# Altium schematic symbol library Vertap_SchLib.SchLib: 24 symbols
Pins are listed as number, name and electrical type; pins without a type are passive.

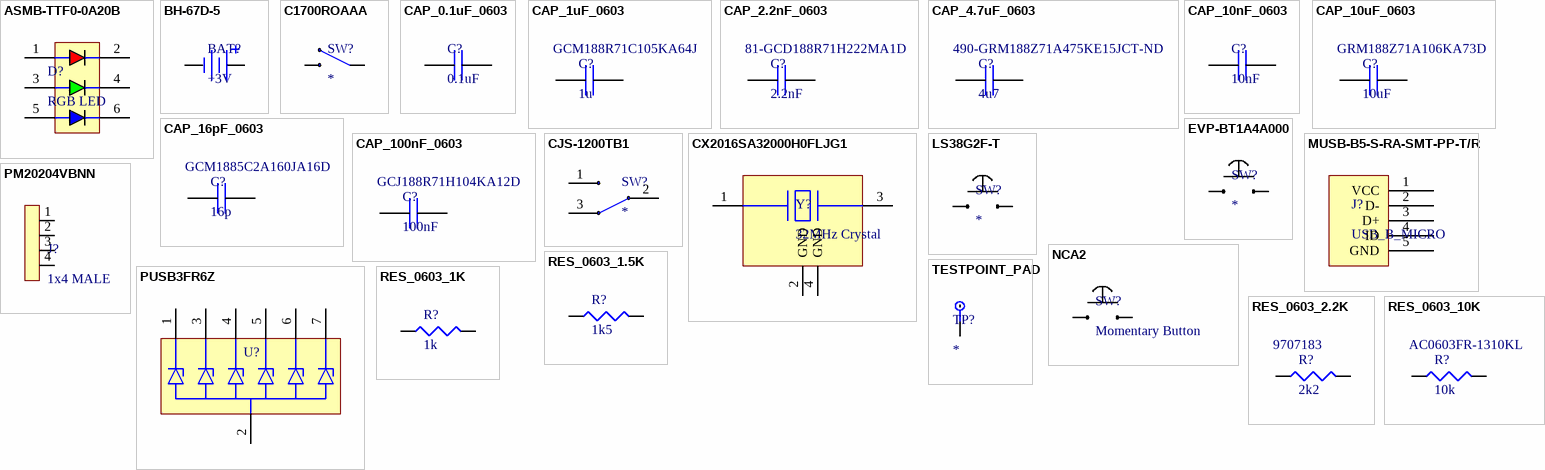
[diagram p0: symbols ASMB-TTF0-0A20B to TESTPOINT_PAD]

## ASMB-TTF0-0A20B
designator D?, comment RGB LED
Red, Green, Blue (RGB) 621nm Red, 522nm Green, 468nm Blue LED Indication - Discrete 2.1V Red, 2.9V Green, 2.9V Blue 4-SMD, J-Lead; Supplier 1: Newark; Supplier Part Number 1: 57AC0504
footprint ASMB-TTF0-0A20B
pins: 1 RED+, 2 RED-, 3 GREEN+, 4 GREEN-, 5 BLUE+, 6 BLUE-

## BH-67D-5
designator BAT?, comment +3V
BATT RETAINER COIN 20MM 1CEL SMD; Supplier 1: Digi-Key; Supplier Part Number 1: 2057-BH-67D-5-ND
footprint BH-67D-5
pins: 1 -, 2 +

## C1700ROAAA
designator SW?
SWITCH TOGGLE ON-OFF; Supplier 1: Mouser; Supplier Part Number 1: 167-C1700ROAAA
pins: 1, 2

## CAP_0.1uF_0603
designator C?, comment 0.1uF
CAP CER 0.1UF 50V X7R 0603; Supplier 1: Mouser; Supplier Part Number 1: 81-GCM188R71H104JA7D
footprint CAP_0603 (Chip Capacitor, 2-Leads, Body 1.60x0.80mm, IPC Medium Density)
pins: 1, 2

## CAP_1uF_0603
designator C?, comment 1u  Supplier Part Number 1: GCM188R71C105KA64J
CAP CER 1UF 16V X7R 0603; Supplier 1: Arrow Electronics
footprint CAP_0603 (Chip Capacitor, 2-Leads, Body 1.60x0.80mm, IPC Medium Density)
pins: 1, 2

## CAP_2.2nF_0603
designator C?, comment 2.2nF  Supplier Part Number 1: 81-GCD188R71H222MA1D
2200 pF ±20% 50V Ceramic Capacitor X7R 0603 (1608 Metric); Supplier 1: Mouser
footprint CAP_0603 (Chip Capacitor, 2-Leads, Body 1.60x0.80mm, IPC Medium Density)
pins: 1, 2

## CAP_4.7uF_0603
designator C?, comment 4u7  Supplier Part Number 1: 490-GRM188Z71A475KE15JCT-ND
CAP CER 4.7UF 10V X7R 0603; Supplier 1: Digi-Key
footprint CAP_0603 (Chip Capacitor, 2-Leads, Body 1.60x0.80mm, IPC Medium Density)
pins: 1, 2

## CAP_10nF_0603
designator C?, comment 10nF
CAP CER 10000PF 100V X7R 0603; Supplier 1: Arrow Electronics; Supplier Part Number 1: GCM188R72A103KA37J
footprint CAP_0603 (Chip Capacitor, 2-Leads, Body 1.60x0.80mm, IPC Medium Density)
pins: 1, 2

## CAP_10uF_0603
designator C?, comment 10uF  Supplier Part Number 1: GRM188Z71A106KA73D
CAP CER 10UF 10V X7R 0603; Supplier 1: Arrow Electronics
footprint CAP_0603 (Chip Capacitor, 2-Leads, Body 1.60x0.80mm, IPC Medium Density)
pins: 1, 2

## CAP_16pF_0603
designator C?, comment 16p  Supplier Part Number 1: GCM1885C2A160JA16D
CAP CER 16PF 100V C0G/NP0 0603; Supplier 1: Arrow Electronics
footprint CAP_0603 (Chip Capacitor, 2-Leads, Body 1.60x0.80mm, IPC Medium Density)
pins: 1, 2

## CAP_100nF_0603
designator C?, comment 100nF  Supplier Part Number 1: GCJ188R71H104KA12D
0.1 µF ±10% 50V Ceramic Capacitor X7R 0603 (1608 Metric); Supplier 1: Arrow Electronics
footprint CAP_0603 (Chip Capacitor, 2-Leads, Body 1.60x0.80mm, IPC Medium Density)
pins: 1, 2

## CJS-1200TB1
designator SW?
SWITCH SLIDE SPDT 100MA 6V; Supplier 1: Avnet; Supplier Part Number 1: CJS-1200TB1
footprint CJS-1200TB1
pins: 1, 2, 3

## CX2016SA32000H0FLJG1
designator Y?, comment 32MHz Crystal
32 MHz ±10ppm Crystal 12pF 60 Ohms 4-SMD, No Lead; Supplier 1: Digi-Key; Supplier Part Number 1: 478-CX2016SA32000H0FLJG1CT-ND
footprint CX2016SA32000H0FLJG1
pins: 1 IN, 2 GND, 3 OUT, 4 GND

## EVP-BT1A4A000
designator SW?
SWITCH TACT 0.02A 15V 0.5N SMD; Supplier 1: Mouser; Supplier Part Number 1: 769-EVP-BT1A4A000
footprint EVP-BT1A4A000
pins: 1 0, 2 1

## LS38G2F-T
designator SW?
TOP-PRESS TACTILE SWITCH; Supplier 1: Digi-Key; Supplier Part Number 1: 1642-LS38G2F-TCT-ND
footprint EVP-BT1A4A000
footprint LS38G2F-T
pins: 1 0, 2 1

## MUSB-B5-S-RA-SMT-PP-T/R
designator J?, comment USB_B_MICRO
MINI USB, TYPE B, RIGHT ANGLE, S; Supplier 1: Arrow Electronics; Supplier Part Number 1: MUSB-B5-S-RA-SMT-PP-T/R
footprint MUSB-B5-S-RA-SMT-PP-T/R
pins: 1 VCC, 2 D-, 3 D+, 4 ID, 5 GND

## NCA2
designator SW?, comment Momentary Button
SWITCH PB SPST-NO 25MA 50V; Manufacturer 1: CIT Relay and Switch; Manufacturer Part Number 1: NCA2; Supplier 1: Digi-Key; Supplier Part Number 1: 2449-NCA2-ND
pins: 0, 1

## PM20204VBNN
designator J?, comment 1x4 MALE
PIN HEADER, SMT, SINGLE ROW, .10; Supplier 1: Digi-Key; Supplier Part Number 1: 1849-PM20204VBNN-ND
pins: 1, 2, 3, 4

## PUSB3FR6Z
designator U?  (value not drawn)
TVS DIODE 3.3VWM 3VC 7XSON; Supplier 1: Arrow Electronics; Supplier Part Number 1: PUSB3FR6Z
footprint PUSB3FR6Z
pins: 1, 2 GND, 3, 4, 5, 6, 7

## RES_0603_1.5K
designator R?, comment 1k5
RES 1.5K OHM 1% 1/10W 0603; Manufacturer: YAGEO; Manufacturer Part Number: RC0603FR-131K5L; Supplier 1: Future Electronics; Supplier Part Number 1: 7064402
footprint RES_0603 (Chip Resistor, 2-Leads, Body 1.60x0.80mm, IPC Medium Density)
pins: 1, 2

## RES_0603_1K
designator R?, comment 1k
RES 1K OHM 5% 1/10W 0603; Manufacturer: YAGEO; Manufacturer Part Number: RC0603JR-101KL; Supplier 1: Arrow Electronics; Supplier Part Number 1: RC0603JR-101KL
footprint RES_0603 (Chip Resistor, 2-Leads, Body 1.60x0.80mm, IPC Medium Density)
pins: 1, 2

## RES_0603_2.2K
designator R?, comment 2k2  Supplier Part Number 1: 9707183
RES 2.2K OHM 5% 1/10W 0603; Manufacturer: YAGEO; Manufacturer Part Number: RC0603JR-072K2L; Supplier 1: Future Electronics
footprint RES_0603 (Chip Resistor, 2-Leads, Body 1.60x0.80mm, IPC Medium Density)
pins: 1, 2

## RES_0603_10K
designator R?, comment 10k  Supplier Part Number 1: AC0603FR-1310KL
RES 10K OHM 1% 1/10W 0603; Manufacturer: YAGEO; Manufacturer Part Number: AC0603FR-1310KL; Supplier 1: Arrow Electronics
footprint RES_0603 (Chip Resistor, 2-Leads, Body 1.60x0.80mm, IPC Medium Density)
pins: 1, 2

## TESTPOINT_PAD
designator TP?
TEST POINT, PAD ONLY
footprint TESTPOINT
pins: 1